# Altium schematic symbol library GV_QSSPA1.13-JZKZ-V1V6-1.SchLib: 1 symbol
Pins are listed as number, name and electrical type; pins without a type are passive.

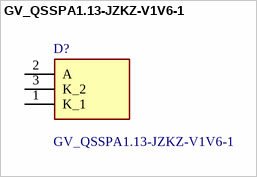
[diagram p0: symbol GV_QSSPA1.13-JZKZ-V1V6-1]

## GV_QSSPA1.13-JZKZ-V1V6-1
designator D?
High Power LEDs - Single Color GV QSSPA1.13; Manufacturer_Name: ams OSRAM; Manufacturer_Part_Number: GV QSSPA1.13-JZKZ-V1V6-1; Geometry.Height: 1.73mm; Mouser Part Number: 720-GVQSSPA113A9486; Mouser Price/Stock: https://www.mouser.co.uk/ProductDetail/ams-OSRAM/GV-QSSPA1.13-JZKZ-V1V6-1?qs=vvQtp7zwQdMSmTtBOA0oaQ%3D%3D; Datasheet Link: https://dammedia.osram.info/media/resource/hires/osram-dam-12216180/GV%20QSSPA1.13_EN.pdf
footprint GVQSSPA113JZKZV1V61
pins: 1 K_1, 2 A, 3 K_2